# EAGLE library part RN_IC (library _mtvl.rcl)
Chip Resistor Array 4 Single Resistor Source: https://www.bourns.com/pdfs/CATCAY.pdf
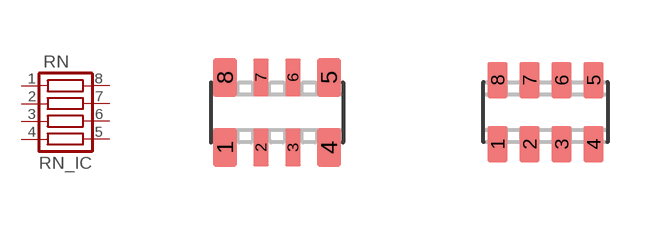
[diagram p0: symbol with the pads of RN0603X4; footprints RN0603X4, CTS742C083]

Designator prefix RN

## RN_IC0603X4 (OC_FARNELL: unknown; OC_NEWARK: unknown)  [RN0603X4]
1  1  pas
2  2  pas
3  3  pas
4  4  pas
5  5  pas
6  6  pas
7  7  pas
8  8  pas

## RN_IC_CTS742C083  [CTS742C083]
Pads as for RN0603X4

## Footprint RN0603X4 (pad centres in mm)
Chip Resistor Array Source: https://www.bourns.com/pdfs/CATCAY.pdf
smd 0.6 x 0.95: 1 -1.3,-0.875; 4 1.3,-0.875; 5 1.3,0.875; 8 -1.3,0.875
smd 0.4 x 0.95: 2 -0.4,-0.875; 3 0.4,-0.875; 6 0.4,0.875; 7 -0.4,0.875

## Footprint CTS742C083 (pad centres in mm)
Chip Resistor Array Source: http://www.ctscorp.com/components/Datasheets/CTSChipArrayDs.pdf
smd 0.5 x 0.9: 1 -1.2,-0.8; 2 -0.4,-0.8; 3 0.4,-0.8; 4 1.2,-0.8; 5 1.2,0.8; 6 0.4,0.8; 7 -0.4,0.8; 8 -1.2,0.8